# EAGLE library part DOTMATRIX5X7CC (library dl)
LED-Punktmatrix-Anzeige 5x7 Spalten = Katoden
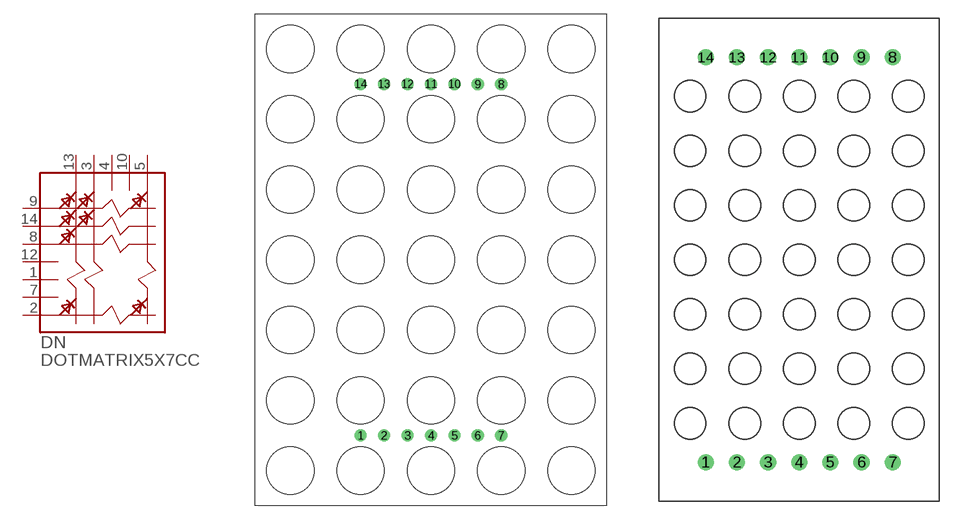
[diagram p5: symbol with the pads of TA20-11; footprints TA20-11, TA12-11]

Designator prefix DN

## DOTMATRIX5X7CCL  [TA20-11]
1  R5  pas
2  R7  pas
3  C2  pas
4  C3  pas
5  C5  pas
7  R6  pas
8  R3  pas
9  R1  pas
10  C4  pas
12  R4  pas
13  C1  pas
14  R2  pas

## DOTMATRIX5X7CCM  [TA12-11]
Pads as for TA20-11

## DOTMATRIX5X7CCS  [TA07-11]
1  C1  pas
2  R3  pas
3  C2  pas
4  R5  pas
5  R6  pas
6  R7  pas
7  C4  pas
8  C5  pas
9  R4  pas
10  C3  pas
11  R2  pas
12  R1  pas

## Footprint TA20-11 (pad centres in mm)
Punktmatrixanzeige 5x7 a=7,62 Ø=5, 14-pol. DIL e=2,54, w=38,1 Kingbright, rot, Reichelt-Bestellnummern "TA 20-11 RT" oder "TC 20-11 RT", 38 x 53,3 mm² Höhe: 8,5 mm
drill 0.813 round: 1 -7.62,-19.05; 2 -5.08,-19.05; 3 -2.54,-19.05; 4 0,-19.05; 5 2.54,-19.05; 6 5.08,-19.05; 7 7.62,-19.05; 8 7.62,19.05; 9 5.08,19.05; 10 2.54,19.05; 11 0,19.05; 12 -2.54,19.05; 13 -5.08,19.05; 14 -7.62,19.05

## Footprint TA12-11 (pad centres in mm)
Punktmatrixanzeige 5x7 a=4,6 Ø=3, 14-pol. DIL e=2,54 w=33,02 Kingbright, rot, Reichelt-Bestellnummern "TA 12-11 RT" oder "TC 12-11 RT", 22,9 x 39,2 mm² Höhe: 8 mm
drill 0.813 round: 1 -7.62,-16.51; 2 -5.08,-16.51; 3 -2.54,-16.51; 4 0,-16.51; 5 2.54,-16.51; 6 5.08,-16.51; 7 7.62,-16.51; 8 7.62,16.51; 9 5.08,16.51; 10 2.54,16.51; 11 0,16.51; 12 -2.54,16.51; 13 -5.08,16.51; 14 -7.62,16.51

## Footprint TA07-11 (pad centres in mm)
Punktmatrixanzeige 5x7 a=2,54 Ø=2, 12-pol. DIL e=2,54 w=7,62 Kingbright, rot, Reichelt-Bestellnummern "TA 07-11 RT" oder "TC 07-11 RT", 17,8 x 12,7 mm² Höhe: 6,4 mm
drill 0.813 round: 1 -3.81,6.35; 2 -3.81,3.81; 3 -3.81,1.27; 4 -3.81,-1.27; 5 -3.81,-3.81; 6 -3.81,-6.35; 7 3.81,-6.35; 8 3.81,-3.81; 9 3.81,-1.27; 10 3.81,1.27; 11 3.81,3.81; 12 3.81,6.35